# EAGLE library part FSSD06-MLP (library bc_custom)
SD/SDIO and MMC Two-Port Multiplexer
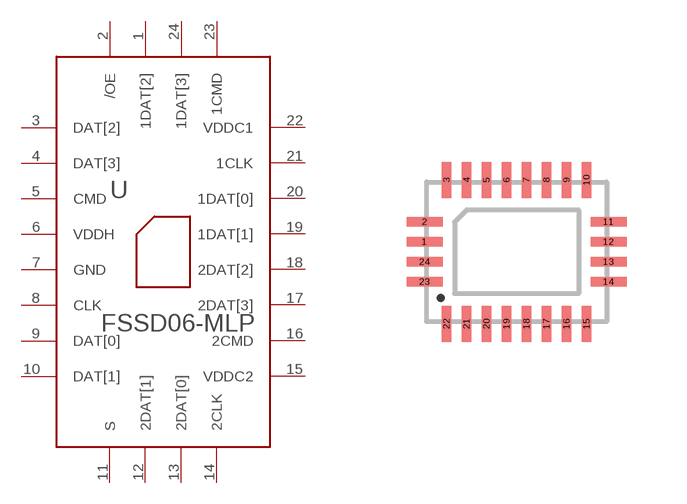
[diagram p0: symbol with the pads of FSSD06-MLP; footprint FSSD06-MLP]

Designator prefix U

## FSSD06-MLP  [FSSD06-MLP]
1  1DAT[2]
2  /OE
3  DAT[2]
4  DAT[3]
5  CMD
6  VDDH
7  GND
8  CLK
9  DAT[0]
10  DAT[1]
11  S
12  2DAT[1]
13  2DAT[0]
14  2CLK
15  VDDC2
16  2CMD
17  2DAT[3]
18  2DAT[2]
19  1DAT[1]
20  1DAT[0]
21  1CLK
22  VDDC1
23  1CMD
24  1DAT[3]

## Footprint FSSD06-MLP (pad centres in mm)
smd 0.9 x 0.24: 1 -2.3,0.25; 2 -2.3,0.75; 11 2.3,0.75; 12 2.3,0.25; 13 2.3,-0.25; 14 2.3,-0.75; 23 -2.3,-0.75; 24 -2.3,-0.25
smd 0.24 x 0.9: 3 -1.75,1.8; 4 -1.25,1.8; 5 -0.75,1.8; 6 -0.25,1.8; 7 0.25,1.8; 8 0.75,1.8; 9 1.25,1.8; 10 1.75,1.8; 15 1.75,-1.8; 16 1.25,-1.8; 17 0.75,-1.8; 18 0.25,-1.8; 19 -0.25,-1.8; 20 -0.75,-1.8; 21 -1.25,-1.8; 22 -1.75,-1.8